# Altium schematic symbol library ME3116AM6G.SchLib: 1 symbol
Pins are listed as number, name and electrical type; pins without a type are passive.

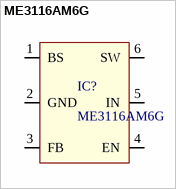
[diagram p0: symbol ME3116AM6G]

## ME3116AM6G
designator IC?
ME3116AM6G Buck converter; Name: ME3116AM6G
footprint SOP6
pins: 1 BS, 2 GND, 3 FB, 4 EN, 5 IN, 6 SW